# EAGLE library part E22-900M30S (library E22-900M30S)
Check availability <https://pricing.snapeda.com/parts/E22-900M30S/EBYTE/view-part?ref=eda>
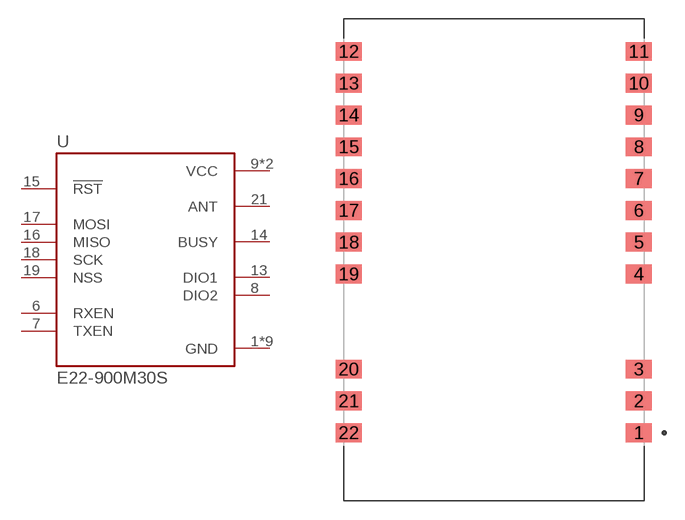
[diagram p0: symbol with the pads of XCVR_E22-900M30S; footprint XCVR_E22-900M30S]

Designator prefix U

## E22-900M30S (Availability: Not in stock; Check_prices: https://www.snapeda.com/parts/E22-900M30S/EBYTE/view-part/?ref=eda; Description: SX1262 868/915 MHz 1w SPI LoRa Module; MF: EBYTE; MP: E22-900M30S; Package: Package; Price: None; SnapEDA_Link: https://www.snapeda.com/parts/E22-900M30S/EBYTE/view-part/?ref=snap)  [XCVR_E22-900M30S]
1  GND  pwr
2  GND  pwr
3  GND  pwr
4  GND  pwr
5  GND  pwr
6  RXEN  in
7  TXEN  in
8  DIO2
9  VCC  pwr
10  VCC  pwr
11  GND  pwr
12  GND  pwr
13  DIO1
14  BUSY  out
15  !RST  in
16  MISO  out
17  MOSI  in
18  SCK  in
19  NSS  in
20  GND  pwr
21  ANT  out
22  GND  pwr

## Footprint XCVR_E22-900M30S (pad centres in mm)
smd 2.08 x 1.51: 1 11.575,-13.82; 2 11.575,-11.28; 3 11.575,-8.74; 4 11.575,-1.14; 5 11.575,1.4; 6 11.575,3.94; 7 11.575,6.48; 8 11.575,9.02; 9 11.575,11.56; 10 11.575,14.1; 11 11.575,16.64; 12 -11.575,16.64; 13 -11.575,14.1; 14 -11.575,11.56; 15 -11.575,9.02; 16 -11.575,6.48; 17 -11.575,3.94; 18 -11.575,1.4; 19 -11.575,-1.14; 20 -11.575,-8.74; 21 -11.575,-11.28; 22 -11.575,-13.82